# Altium footprint library XINGLIGHT_XL-0807RGBC-WS2812B.PcbLib: 1 footprints
Each footprint in its own frame and in the unit in brackets; x right, y up, seen from the top. Pads: shape width x height; smd on the part's side, far side on the other; paste and mask are expansions set on the pad; w line width, h text height; cw(c..) or ccw(c..) is an arc to the next point about the centre after c.
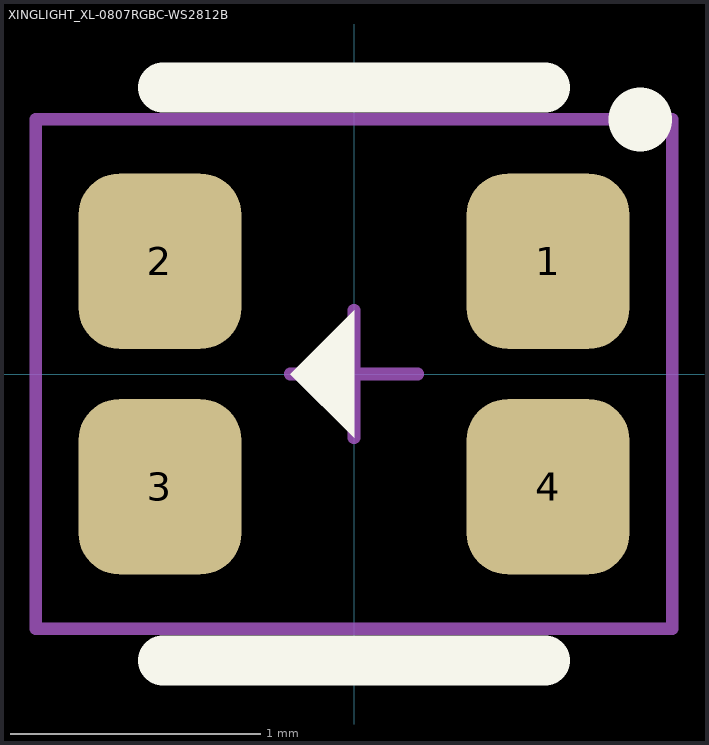
[diagram p0: the footprint, top view; thin cyan lines are the x and y axes]

## XINGLIGHT_XL-0807RGBC-WS2812B [mm]
pads (4):
  rrect50% 0.65x0.7 smd: 1(0.775,0.45) 2(-0.775,0.45) 3(-0.775,-0.45) 4(0.775,-0.45)
Top Overlay:
  circle w0.254: c1.143,1.016 r0
  region: -0.254,0 0,0.254 0,-0.254
  lines w0.2: -0.762,-1.143 0.762,-1.143 ; -0.762,1.143 0.762,1.143
Mechanical 15:
  lines w0.05: -0.254,0 0.254,0 ; 0,-0.254 0,0.254 ; -1.27,-1.016 -1.27,1.016 1.27,1.016 1.27,-1.016 -1.27,-1.016
3D body: height 0.8, standoff 0.05, extent -1,-0.9 1,0.9